# EAGLE library part CBI-564-0X00-XXX-3LED (library meng)
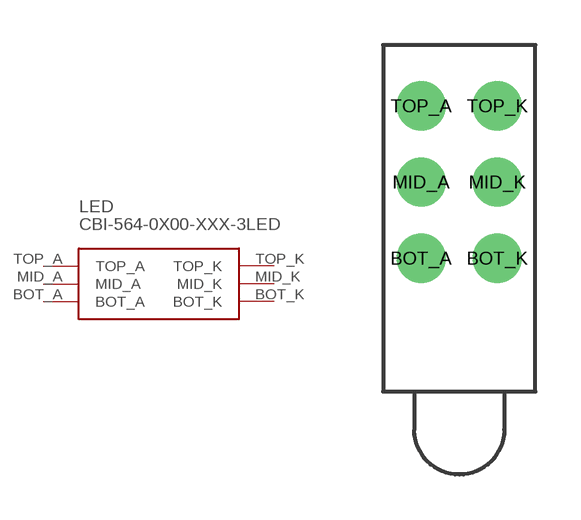
[diagram p22: symbol with the pads of CBI-564-0X00-XXX; footprint CBI-564-0X00-XXX]

Designator prefix LED

## CBI-564-0X00-XXX-3LED (VALUE: 564-0x00-xxx)  [CBI-564-0X00-XXX]
BOT_A  BOT_A
BOT_K  BOT_K
MID_A  MID_A
MID_K  MID_K
TOP_A  TOP_A
TOP_K  TOP_K

## Footprint CBI-564-0X00-XXX (pad centres in mm)
drill 1.092: BOT_A -1.27,-2.54; BOT_K 1.27,-2.54; MID_A -1.27,0; MID_K 1.27,0; TOP_A -1.27,2.54; TOP_K 1.27,2.54